# EAGLE library part LT1463 (library eric-custom)
LT1463 Quad Micropower, 260µW C-Load Picoampere Bias Current JFET Input Op Amps
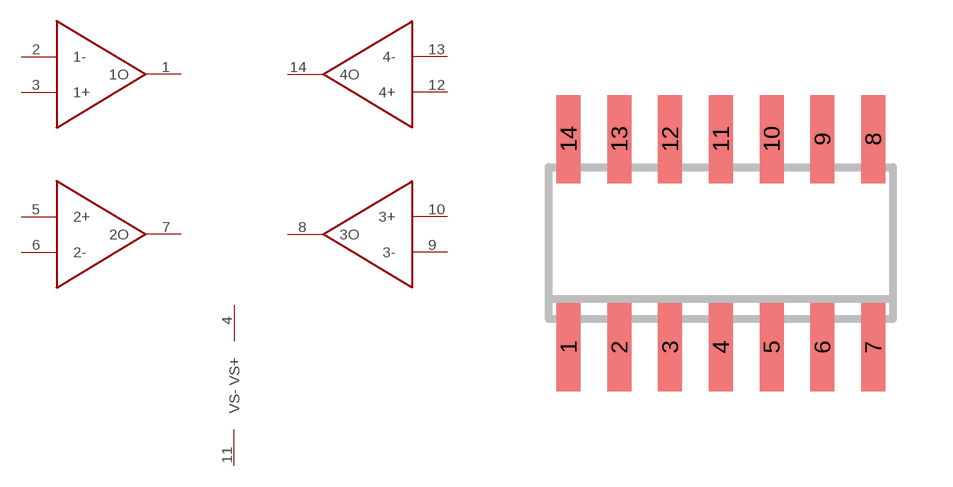
[diagram p5: symbol with the pads of SO14; footprint SO14]

Designator prefix -

## LT1463  [SO14]
1  1O
2  1-
3  1+
4  VS+
5  2+
6  2-
7  2O
8  3O
9  3-
10  3+
11  VS-
12  4+
13  4-
14  4O

## Footprint SO14 (pad centres in mm)
Small Outline Package 14
smd 0.6 x 2.2: 1 -3.81,-2.6; 2 -2.54,-2.6; 3 -1.27,-2.6; 4 0,-2.6; 5 1.27,-2.6; 6 2.54,-2.6; 7 3.81,-2.6; 8 3.81,2.6; 9 2.54,2.6; 10 1.27,2.6; 11 0,2.6; 12 -1.27,2.6; 13 -2.54,2.6; 14 -3.81,2.6